# Altium footprint library FootprintsPersonals.PcbLib: 152 footprints (part 10 of 10)
Each footprint in its own frame and in the unit in brackets; x right, y up, seen from the top. Pads: shape width x height; smd on the part's side, far side on the other; paste and mask are expansions set on the pad; w line width, h text height; cw(c..) or ccw(c..) is an arc to the next point about the centre after c.
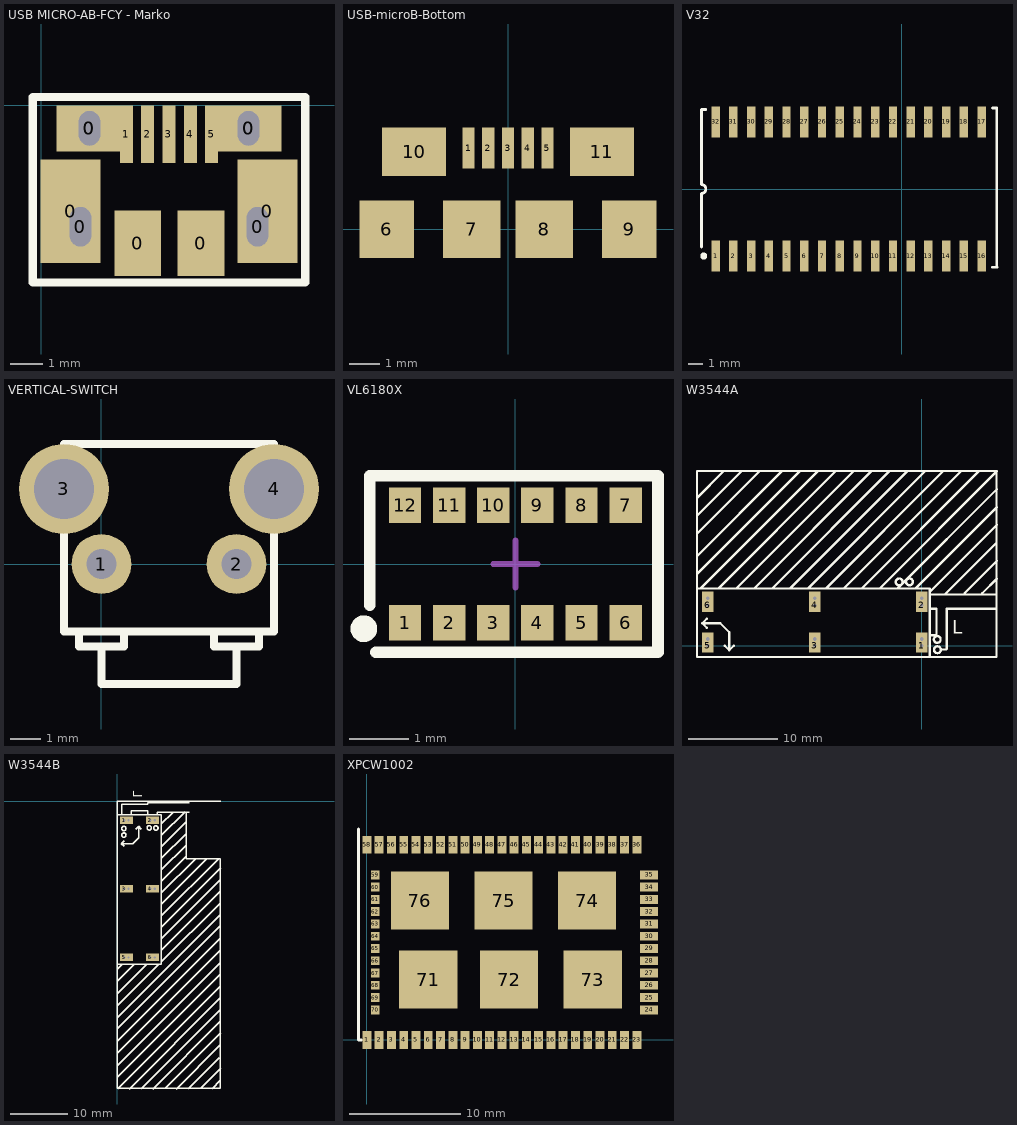
[diagram p9: the footprints below, top view; thin cyan lines are the x and y axes]

## USB MICRO-AB-FCY - Marko [mm]
pads (15):
  rect 1.825x3.15 smd: 0(0.9,-3.225) 0(6.9,-3.225)
  oval 1x1.5 hole 0.65 slot 1.2 at 90 deg: 0(1.2,-3.7) 0(6.6,-3.7)
  rect 2x1.4 smd: 0(1.475,-0.7) 0(6.325,-0.7)
  oval 1x1.3 hole 0.65 slot 1.05 at 90 deg paste+0 mask+0: 0(1.475,-0.7) 0(6.325,-0.7)
  rect 1.425x2 smd: 0(2.95,-4.2) 0(4.875,-4.2)
  rect 0.4x1.75 smd: 1(2.6,-0.875) 2(3.25,-0.875) 3(3.9,-0.875) 4(4.55,-0.875) 5(5.2,-0.875)
Top Overlay:
  lines w0.254: -0.254,-5.4 -0.254,0.254 8.054,0.254 8.054,-5.4 -0.254,-5.4
3D body: height 2.5, standoff 0, extent 0.15,-5.325 7.65,0.275

## USB-microB-Bottom [mm]
pads (11):
  rect 0.4x1.35 smd: 1(-1.3,2.675) 2(-0.65,2.675) 3(0,2.675) 4(0.65,2.675) 5(1.3,2.675)
  rect 1.8x1.9 smd: 6(-4,0) 9(4,0)
  rect 1.9x1.9 smd: 7(-1.2,0) 8(1.2,0)
  rect 2.1x1.6 smd: 10(-3.1,2.55) 11(3.1,2.55)
3D body: height 2.5, standoff 0, extent -3.75,-2.75 3.75,2.85

## V32 [mm] "SOJ, Molded; 32 Leads; Body Width 10.16 mm"
height 3.76
pads (32):
  rect 0.6x2.2 smd: 1(-13.335,-4.8) 2(-12.065,-4.8) 3(-10.795,-4.8) 4(-9.525,-4.8) 5(-8.255,-4.8) 6(-6.985,-4.8) 7(-5.715,-4.8) 8(-4.445,-4.8) 9(-3.175,-4.8) 10(-1.905,-4.8) 11(-0.635,-4.8) 12(0.635,-4.8) 13(1.905,-4.8) 14(3.175,-4.8) 15(4.445,-4.8) 16(5.715,-4.8) 17(5.715,4.8) 18(4.445,4.8) 19(3.175,4.8) 20(1.905,4.8) 21(0.635,4.8) 22(-0.635,4.8) 23(-1.905,4.8) 24(-3.175,4.8) 25(-4.445,4.8) 26(-5.715,4.8) 27(-6.985,4.8) 28(-8.255,4.8) 29(-9.525,4.8) 30(-10.795,4.8) 31(-12.065,4.8) 32(-13.335,4.8)
Top Overlay:
  circle w0.25: c-14.185,-4.8 r0.125
  lines w0.2: -14.35,-4.15 -14.35,-0.317 ccw(c-14.35,0) -14.35,0.318 -14.35,5.7 -14.035,5.7 ; 6.485,5.8 6.8,5.8 6.8,-5.6 ; 6.5,-5.6 6.815,-5.6

## VERTICAL-SWITCH [mm] "5N Type Side-operational Light Touch Switches"
height 7.4
pads (4):
  round 2 hole 1: 1(0,0) 2(4.5,0)
  round 3 hole 2: 3(-1.25,2.5) 4(5.75,2.5)
Top Overlay:
  lines w0.254: -1.25,1.5 -1.25,0 -1.25,-2.25 5.75,-2.25 5.75,0 5.75,1.5 ; -1.25,3.5 -1.25,4 5.75,4 5.75,3.5 ; -0.75,-2.25 -0.75,-2.75 0.75,-2.75 0.75,-2.25 ; 0,-2.75 0,-4 4.5,-4 4.5,-2.75 ; 3.75,-2.25 3.75,-2.75 5.25,-2.75 5.25,-2.25

## VL6180X [mm] "Proximity and ambient light sensing (ALS) module"
pads (12):
  rect 0.55x0.6 smd: 1(-1.875,-1) 2(-1.125,-1) 3(-0.375,-1) 4(0.375,-1) 5(1.125,-1) 6(1.875,-1) 7(1.875,1) 8(1.125,1) 9(0.375,1) 10(-0.375,1) 11(-1.125,1) 12(-1.875,1)
Top Overlay:
  circle w0.254: c-2.575,-1.1 r0.1
  lines w0.2: -2.475,-0.7 -2.475,1.5 2.425,1.5 2.425,-1.5 -2.375,-1.5
Mechanical 15:
  lines w0.1: -0.375,0 0.375,0 ; 0,-0.4 0,0.4
3D body: height 1, standoff 0, extent -2.4,-1.4 2.4,1.4

## W3544A [mm] "Antena Pentabanda GSM/3G Vertical"
pads (6):
  rect 1.3x2.25 hole 0.4 copper offset 0,0.375: 1(0,0) 2(0,4.54) 3(-11.95,0) 4(-11.95,4.54) 5(-23.9,0) 6(-23.9,4.54)
via 0,0.75 diameter 0.4 hole 0.4
via 0,5.29 diameter 0.4 hole 0.4
via -11.95,5.29 diameter 0.4 hole 0.4
via -11.95,0.75 diameter 0.4 hole 0.4
via -23.9,5.29 diameter 0.4 hole 0.4
via -23.9,0.75 diameter 0.4 hole 0.4
Top Overlay:
  circle w0.254: c-2.525,7.125 r0.378
  circle w0.254: c-1.375,7.125 r0.378
  circle w0.254: c1.725,0.7 r0.378
  circle w0.254: c1.75,-0.45 r0.378
  lines w0.254: -25.1,8 -13.6,19.5 ; -25.1,10 -15.6,19.5 ; -25.1,12.5 -18.1,19.5 ; -25.1,14.5 -20.1,19.5 ; -25.1,16.5 -22.1,19.5 ; -24.65,6.45 -11.6,19.5 ; -24,2 -24.5,2.5 ; -24,3 -24.5,2.5 ; -22.65,6.45 -9.6,19.5 ; -22,0 -21.5,-0.5 ; -21,0 -21.5,-0.5 ; -20.65,6.45 -7.6,19.5 ; -18.65,6.45 -5.6,19.5 ; -16.65,6.45 -3.6,19.5 ; -14.65,6.45 -1.6,19.5 ; -12.65,6.45 0.4,19.5 ; -10.65,6.45 2.4,19.5 ; -8.65,6.45 4.4,19.5 ; -6.65,6.45 6.4,19.5 ; -4.65,6.45 8.4,19.5 ; -2.65,6.45 8.375,17.475 ; -0.65,6.45 8.4,15.5 ; 0.9,1.175 1.625,1.175 1.65,1.2 1.65,4.1 1.625,4.125 1.025,4.125 ; 0.9,5.725 8.35,5.725 ; 0.9,6 8.4,13.5 ; 2.128,-0.45 2.153,-0.425 2.7,-0.425 2.775,-0.35 2.775,4.125 2.825,4.125 8.35,4.125 ; 2.562,5.725 8.337,11.5 8.35,11.5 ; 4.762,5.863 8.4,9.5 ; 6.762,5.863 8.4,7.5 ; -25.1,-1.25 0.9,-1.25 ; -25.1,-1.25 -25.1,6.4 0.9,6.4 0.9,-1.25 ; -25.1,-1.25 -25.1,19.5 8.35,19.5 8.35,-1.25 0.9,-1.25 ; -24.5,2.5 -22.5,2.5 -21.5,1.5 -21.5,-0.5
  text "L" at 3.425,1.325 h1.52
3D body: height 3, standoff 0, extent -25.1,-1.3 0.9,6.4

## W3544B [mm] "Antena Pentabanda GSM/3G Vertical"
pads (6):
  rect 2.25x1.3 hole 0.4 copper offset 0.375,0: 1(1.25,-3.3) 2(5.79,-3.3) 3(1.25,-15.25) 4(5.79,-15.25) 5(1.25,-27.2) 6(5.79,-27.2)
via 2,-27.2 diameter 0.4 hole 0.4
via 6.54,-27.2 diameter 0.4 hole 0.4
via 2,-15.25 diameter 0.4 hole 0.4
via 6.54,-15.25 diameter 0.4 hole 0.4
via 6.54,-3.3 diameter 0.4 hole 0.4
via 2,-3.3 diameter 0.4 hole 0.4
Top Overlay:
  circle w0.254: c5.6,-4.65 r0.378
  circle w0.254: c6.75,-4.675 r0.378
  circle w0.254: c1.175,-4.75 r0.378
  circle w0.254: c1.175,-5.9 r0.378
  lines w0.254: 0,-28.4 7.65,-28.4 7.65,-2.4 0,-2.4 ; 0.05,-33.5 5.125,-28.425 ; 0.05,-31.3 2.975,-28.375 ; 0.075,-50.075 17.925,-32.225 ; 0.075,-45.975 17.925,-28.125 ; 0.075,-43.775 17.925,-25.925 ; 0.075,-41.675 17.925,-23.825 ; 0.075,-37.575 17.925,-19.725 ; 0.075,-29.2 0.875,-28.4 ; 0.15,-47.95 18,-30.1 ; 0.15,-39.55 18,-21.7 ; 0.15,-35.5 7.225,-28.425 ; 0.825,-2.4 0.825,-0.6 0.9,-0.525 5.375,-0.525 5.375,-0.475 5.375,-0.3 12.6,-0.3 ; 1.25,-7.875 0.75,-7.375 ; 1.25,-6.875 0.75,-7.375 ; 2.1,-50.1 18,-34.2 ; 2.425,-2.4 2.425,-1.675 2.45,-1.65 5.35,-1.65 5.375,-1.675 5.375,-2.4 ; 3.25,-4.875 3.75,-4.375 ; 4.2,-50.05 17.925,-36.325 ; 4.25,-4.875 3.75,-4.375 ; 6.2,-50.1 18,-38.3 ; 6.975,-2.4 6.975,-1.9 12.6,-1.9 ; 7.7,-27.95 17.925,-17.725 ; 7.7,-25.95 17.95,-15.7 ; 7.7,-23.95 17.975,-13.675 ; 7.7,-21.95 18.025,-11.625 ; 7.7,-19.95 17.675,-9.975 ; 7.7,-17.95 15.625,-10.025 ; 7.7,-15.95 13.675,-9.975 ; 7.7,-13.95 11.975,-9.675 ; 7.7,-11.95 12.025,-7.625 ; 7.7,-9.95 12.025,-5.625 ; 7.7,-7.95 11.975,-3.675 ; 7.7,-5.95 11.825,-1.825 ; 7.7,-3.95 9.675,-1.975 ; 8.4,-49.95 18.075,-40.275 ; 10.3,-50.1 17.975,-42.425 ; 12,-1.9 12,-10 18,-10 18,-50 0,-50 0,-2.4 ; 12.4,-50.05 17.825,-44.625 ; 14.6,-49.95 18.025,-46.525 ; 16.525,-50.025 17.975,-48.575 ; 18.025,0 0,0 0,-2.4 ; 0.75,-7.375 2.75,-7.375 3.75,-6.375 3.75,-4.375
  text "L" at 2.85,0.6 h1.52
3D body: height 3, standoff 0, extent 0,-28.4 7.7,-2.4

## XPCW1002 [mm]
pads (76):
  rect 0.8x1.6 smd: 1(0,0) 2(1.1,0) 3(2.2,0) 4(3.3,0) 5(4.4,0) 6(5.5,0) 7(6.6,0) 8(7.7,0) 9(8.8,0) 10(9.9,0) 11(11,0) 12(12.1,0) 13(13.2,0) 14(14.3,0) 15(15.4,0) 16(16.5,0) 17(17.6,0) 18(18.7,0) 19(19.8,0) 20(20.9,0) 21(22,0) 22(23.1,0) 23(24.2,0) 36(24.2,17.5) 37(23.1,17.5) 38(22,17.5) 39(20.9,17.5) 40(19.8,17.5) 41(18.7,17.5) 42(17.6,17.5) 43(16.5,17.5) 44(15.4,17.5) 45(14.3,17.5) 46(13.2,17.5) 47(12.1,17.5) 48(11,17.5) 49(9.9,17.5) 50(8.8,17.5) 51(7.7,17.5) 52(6.6,17.5) 53(5.5,17.5) 54(4.4,17.5) 55(3.3,17.5) 56(2.2,17.5) 57(1.1,17.5) 58(0,17.5)
  rect 1.6x0.8 smd: 24(25.3,2.7) 25(25.3,3.8) 26(25.3,4.9) 27(25.3,6) 28(25.3,7.1) 29(25.3,8.2) 30(25.3,9.3) 31(25.3,10.4) 32(25.3,11.5) 33(25.3,12.6) 34(25.3,13.7) 35(25.3,14.8)
  rect 0.8x0.8 smd: 59(0.75,14.8) 60(0.75,13.7) 61(0.75,12.6) 62(0.75,11.5) 63(0.75,10.4) 64(0.75,9.3) 65(0.75,8.2) 66(0.75,7.1) 67(0.75,6) 68(0.75,4.9) 69(0.75,3.8) 70(0.75,2.7)
  rect 5.207x5.207 smd: 71(5.5,5.4) 72(12.75,5.4) 73(20.25,5.4) 74(19.75,12.5) 75(12.25,12.5) 76(4.75,12.5)
Top Overlay:
  lines w0.254: -0.75,18.9 -0.75,0 -0.5,0